# Altium footprint library HTSSOP-38.PcbLib: 1 footprints
Each footprint in its own frame and in the unit in brackets; x right, y up, seen from the top. Pads: shape width x height; smd on the part's side, far side on the other; paste and mask are expansions set on the pad; w line width, h text height; cw(c..) or ccw(c..) is an arc to the next point about the centre after c.
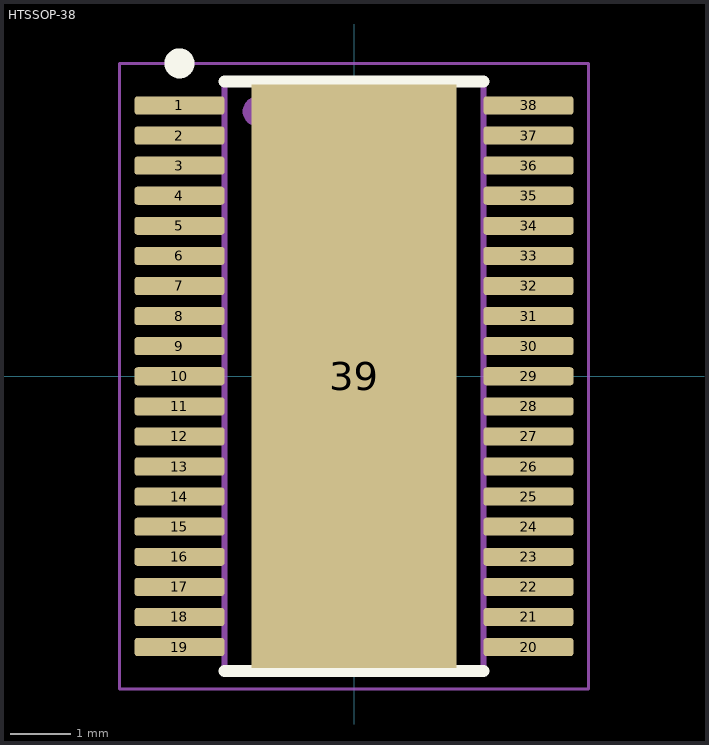
[diagram p0: the footprint, top view; thin cyan lines are the x and y axes]

## HTSSOP-38 [mm] "PowerPAD TSSOP"
height 1.2
pads (39):
  rrect34% 1.5x0.3 smd mask+0.05: 1(-2.9,4.5) 2(-2.9,4) 3(-2.9,3.5) 4(-2.9,3) 5(-2.9,2.5) 6(-2.9,2) 7(-2.9,1.5) 8(-2.9,1) 9(-2.9,0.5) 10(-2.9,0) 11(-2.9,-0.5) 12(-2.9,-1) 13(-2.9,-1.5) 14(-2.9,-2) 15(-2.9,-2.5) 16(-2.9,-3) 17(-2.9,-3.5) 18(-2.9,-4) 19(-2.9,-4.5) 20(2.9,-4.5) 21(2.9,-4) 22(2.9,-3.5) 23(2.9,-3) 24(2.9,-2.5) 25(2.9,-2) 26(2.9,-1.5) 27(2.9,-1) 28(2.9,-0.5) 29(2.9,0) 30(2.9,0.5) 31(2.9,1) 32(2.9,1.5) 33(2.9,2) 34(2.9,2.5) 35(2.9,3) 36(2.9,3.5) 37(2.9,4) 38(2.9,4.5)
  rect 3.4x9.7 smd paste-2539.97 mask-2539.97: 39(0,0)
Top Overlay:
  circle w0.25: c-2.9,5.2 r0.125
  lines w0.2: -2.15,-4.9 2.15,-4.9 ; -2.15,4.9 2.15,4.9
Top Paste:
  region: -1.45,-2.35 -1.45,2.35 1.45,2.35 1.45,-2.35
Top Solder:
  region: -1.45,-2.35 -1.45,2.35 1.45,2.35 1.45,-2.35
Top Assembly:
  circle w0.25: c-1.6,4.4 r0.125
  lines w0.1: -2.15,-4.9 2.15,-4.9 2.15,4.9 -2.15,4.9 -2.15,-4.9
Top Courtyard:
  lines w0.05: -3.9,-5.2 -3.9,5.2 3.9,5.2 3.9,-5.2 -3.9,-5.2
Top Designator:
  text ".Designator" at -4.998,-0.333 h1
3D body "TAS5806MDCPR--3DModel-STEP-56544.STEP": height 1.19, standoff -0.01, extent -3.2,-4.85 3.2,4.85